# EAGLE library part TSM-113-01-L-SH (library ltobms)
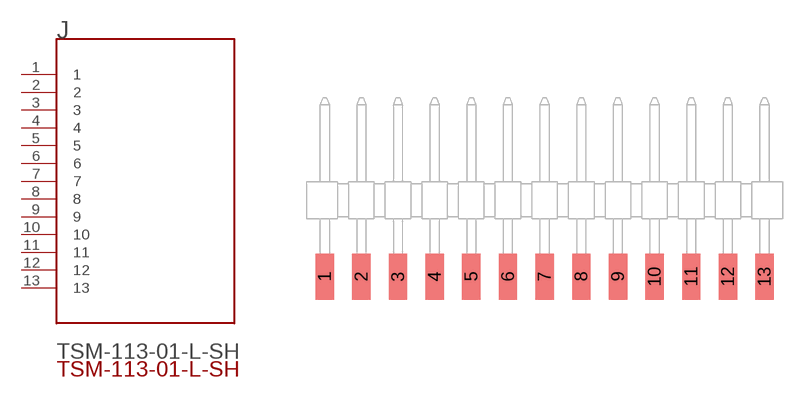
[diagram p1: symbol with the pads of TSM-113-01-L-SH; footprint TSM-113-01-L-SH]

Designator prefix J

## TSM-113-01-L-SHJ  [TSM-113-01-L-SH]
1  1
2  2
3  3
4  4
5  5
6  6
7  7
8  8
9  9
10  10
11  11
12  12
13  13

## Footprint TSM-113-01-L-SH (pad centres in mm)
translated Allegro footprint
smd 1.27 x 3.18: 1 -15.24,-5.283; 2 -12.7,-5.283; 3 -10.16,-5.283; 4 -7.62,-5.283; 5 -5.08,-5.283; 6 -2.54,-5.283; 7 0,-5.283; 8 2.54,-5.283; 9 5.08,-5.283; 10 7.62,-5.283; 11 10.16,-5.283; 12 12.7,-5.283; 13 15.24,-5.283